# EAGLE library part ESP8266-12 (library captain-slow)
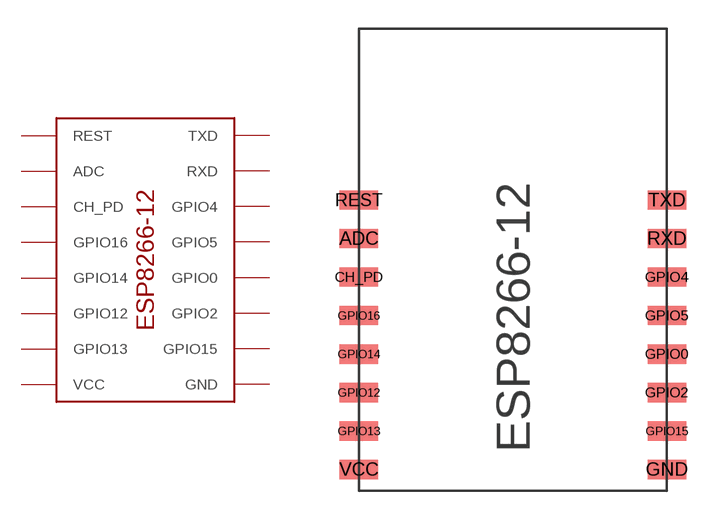
[diagram p7: symbol with the pads of ESP8266-12; footprint ESP8266-12]

Designator prefix -

## ESP8266-12  [ESP8266-12]
ADC  ADC
CH_PD  CH_PD
GND  GND
GPIO0  GPIO0
GPIO2  GPIO2
GPIO4  GPIO4
GPIO5  GPIO5
GPIO12  GPIO12
GPIO13  GPIO13
GPIO14  GPIO14
GPIO15  GPIO15
GPIO16  GPIO16
REST  REST
RXD  RXD
TXD  TXD
VCC  VCC

## Footprint ESP8266-12 (pad centres in mm)
smd 2 x 1: ADC -8,1.1; CH_PD -8,-0.9; GND 8,-10.9; GPIO0 8,-4.9; GPIO2 8,-6.9; GPIO4 8,-0.9; GPIO5 8,-2.9; GPIO12 -8,-6.9; GPIO13 -8,-8.9; GPIO14 -8,-4.9; GPIO15 8,-8.9; GPIO16 -8,-2.9; REST -8,3.1; RXD 8,1.1; TXD 8,3.1; VCC -8,-10.9